# Altium footprint library MINI SLIDE SWITCH.PcbLib: 1 footprints
Each footprint in its own frame and in the unit in brackets; x right, y up, seen from the top. Pads: shape width x height; smd on the part's side, far side on the other; paste and mask are expansions set on the pad; w line width, h text height; cw(c..) or ccw(c..) is an arc to the next point about the centre after c.
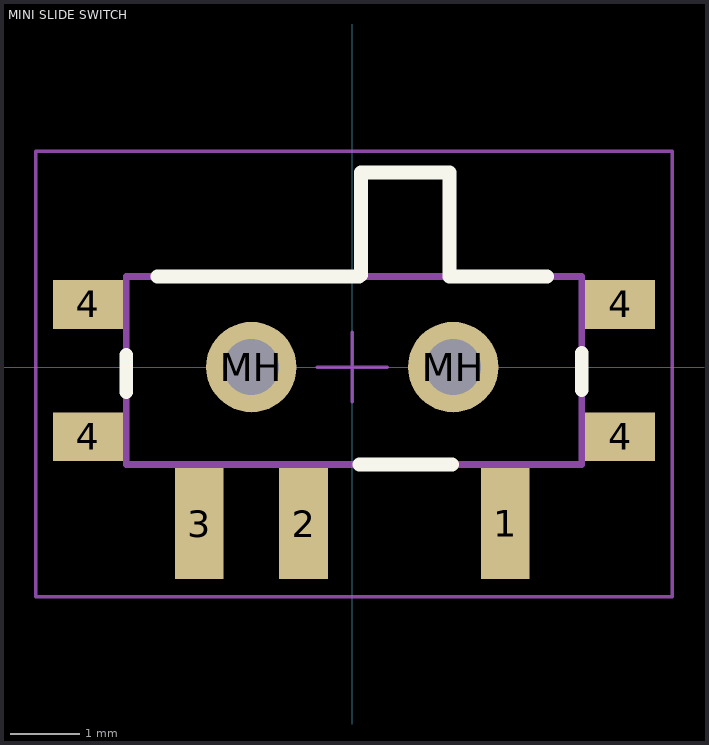
[diagram p0: the footprint, top view; thin cyan lines are the x and y axes]

## MINI SLIDE SWITCH [mm] "Miniature Horizontal Slide Switch SMD"
height 1.4
pads (9):
  rect 0.7x1.6 smd: 1(2.2,-2.25) 2(-0.7,-2.25) 3(-2.2,-2.25)
  rect 1x0.7 smd: 4(-3.8,-1) 4(-3.8,0.9) 4(3.85,-1) 4(3.85,0.9)
  round 1.3 hole 0.8: MH(-1.45,0) MH(1.45,0)
Top Overlay:
  lines w0.2: -3.25,-0.358 -3.25,0.175 ; -2.8,1.3 0.1,1.3 ; 0.1,-1.4 1.433,-1.4 ; 0.125,1.325 0.125,2.8 1.4,2.8 1.4,1.3 2.8,1.3 ; 3.3,-0.333 3.3,0.2
Top Component Outline:
  lines w0.1: -2.45,-1.4 -2.45,-2.9 -1.95,-2.9 -1.95,-1.4 ; -0.95,-1.4 -0.95,-2.9 -0.45,-2.9 -0.45,-1.4 ; 1.95,-1.4 1.95,-2.9 2.45,-2.9 2.45,-1.4 ; -3.25,-1.4 3.3,-1.4 3.3,1.3 -3.25,1.3 -3.25,-1.4
Top Courtyard:
  lines w0.05: -0.5,0 0.5,0 ; 0,-0.5 0,0.5 ; -4.55,-3.3 -4.55,3.1 4.6,3.1 4.6,-3.3 -4.55,-3.3
3D body: height 0.03, standoff 0, extent 6.5,1.3 6.5,1.3
3D body: height 1.4, standoff 0, extent 0.025,1.3 1.4,2.8
3D body: height 1.4, standoff 0, extent -3.25,-1.4 3.3,1.3